# Altium footprint library PCB Library.PcbLib: 18 footprints (part 1 of 2)
Each footprint in its own frame and in the unit in brackets; x right, y up, seen from the top. Pads: shape width x height; smd on the part's side, far side on the other; paste and mask are expansions set on the pad; w line width, h text height; cw(c..) or ccw(c..) is an arc to the next point about the centre after c.
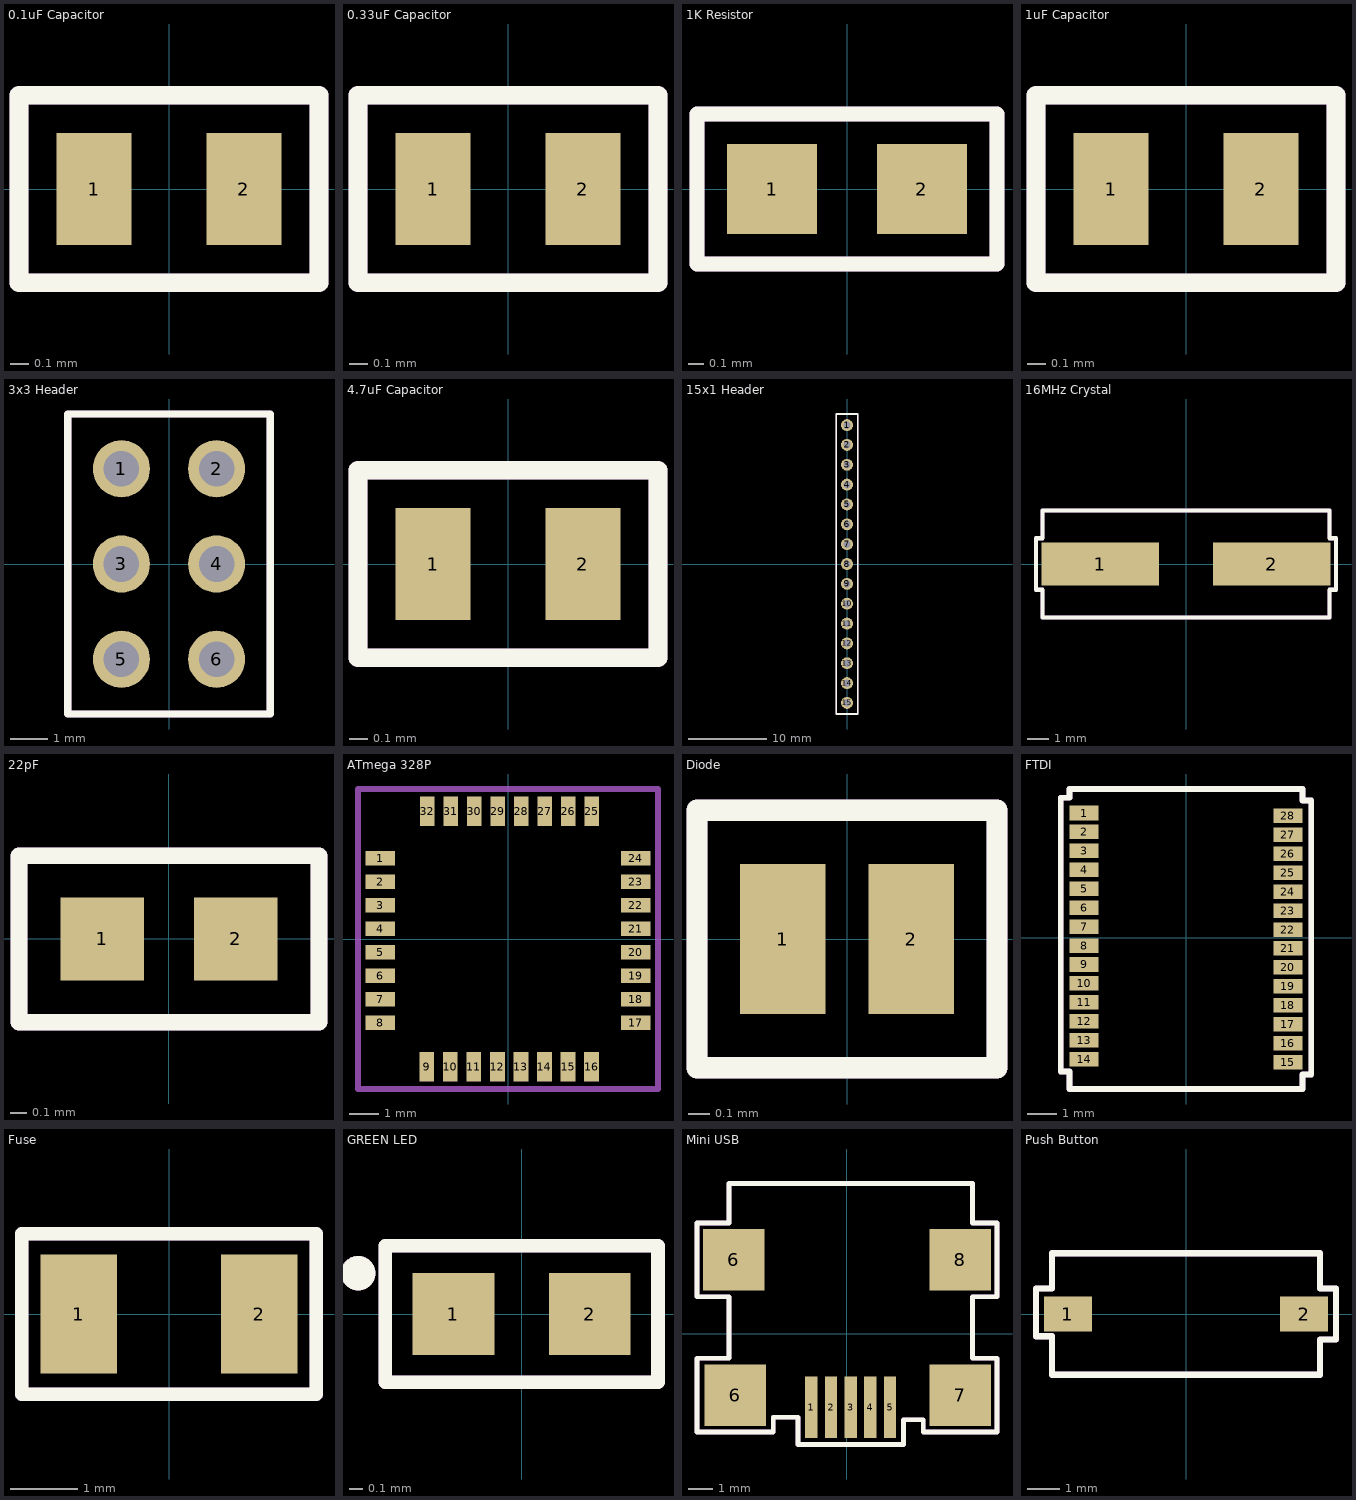
[diagram p0: the footprints below, top view; thin cyan lines are the x and y axes]

## 0.1uF Capacitor [mm]
pads (2):
  rect 0.4x0.6 smd: 1(-0.4,0) 2(0.4,0)
Top Overlay:
  lines w0.1: -0.8,-0.5 0.8,-0.5 0.8,0.5 -0.8,0.5 -0.8,-0.5
Assemble Layer:
  lines w0.1: -0.8,-0.5 0.8,-0.5 0.8,0.5 -0.8,0.5 -0.8,-0.5
  text "'.Designator'" at -0.5,-0.233 h0.5
3D body "0.1uF or 100nF.STEP": height 0.55, standoff 0, extent -0.5,-0.25 0.5,0.25

## 0.33uF Capacitor [mm]
pads (2):
  rect 0.4x0.6 smd: 1(-0.4,0) 2(0.4,0)
Top Overlay:
  lines w0.1: -0.8,-0.5 -0.8,0.5 0.8,0.5 0.8,-0.5 -0.8,-0.5
Assemble Layer:
  lines w0.1: -0.8,-0.5 -0.8,0.5 0.8,0.5 0.8,-0.5 -0.8,-0.5
  text "'.Designator'" at -0.5,-0.233 h0.5
3D body "0.33uF.STEP": height 0.55, standoff 0, extent -0.5,-0.25 0.5,0.25

## 1K Resistor [mm]
pads (2):
  rect 0.6x0.6 smd: 1(-0.5,0) 2(0.5,0)
Top Overlay:
  lines w0.1: -1,-0.5 -1,0.5 1,0.5 1,-0.5 -1,-0.5
Assemble Layer:
  lines w0.1: -1,-0.5 -1,0.5 1,0.5 1,-0.5 -1,-0.5
  text "'.Designator'" at -1.1,-0.233 h0.5
3D body "1K Resistor.STEP": height 0.36, standoff 0.01, extent -0.5,-0.25 0.5,0.25

## 1uF Capacitor [mm]
pads (2):
  rect 0.4x0.6 smd: 1(-0.4,0) 2(0.4,0)
Top Overlay:
  lines w0.1: -0.8,-0.5 -0.8,0.5 0.8,0.5 0.8,-0.5 -0.8,-0.5
Assemble Layer:
  lines w0.1: -0.8,-0.5 -0.8,0.5 0.8,0.5 0.8,-0.5 -0.8,-0.5
  text "'.Designator'" at -0.5,-0.233 h0.5
3D body "0.1uF or 100nF.STEP": height 0.55, standoff 0, extent -0.5,-0.25 0.5,0.25

## 3x3 Header [mil]
pads (6):
  round 60 hole 37.4: 1(-50,100) 2(50,100) 3(-50,0) 4(50,0) 5(-50,-100) 6(50,-100)
Top Overlay:
  lines w7.87: -106.3,-157.48 -106.3,157.48 106.3,157.48 106.3,-157.48 -106.3,-157.48
Assemble Layer:
  lines w7.87: -106.3,-157.48 -106.3,157.48 106.3,157.48 106.3,-157.48 -106.3,-157.48
  text "'.Designator'" at -94.49,-1.31 h19.68
3D body "3x3 Header.stp": height 218.61, standoff -235.72, extent -100,-150.39 100,149.61

## 4.7uF Capacitor [mm]
pads (2):
  rect 0.4x0.6 smd: 1(-0.4,0) 2(0.4,0)
Top Overlay:
  lines w0.1: -0.8,-0.5 0.8,-0.5 0.8,0.5 -0.8,0.5 -0.8,-0.5
Assemble Layer:
  lines w0.1: -0.8,-0.5 0.8,-0.5 0.8,0.5 -0.8,0.5 -0.8,-0.5
  text "'.Designator'" at -0.5,-0.233 h0.5
3D body "0.1uF or 100nF.STEP": height 0.55, standoff 0, extent -0.5,-0.25 0.5,0.25

## 15x1 Header [mil]
pads (15):
  round 60 hole 37.4: 1(0,700) 2(0,600) 3(0,500) 4(0,400) 5(0,300) 6(0,200) 7(0,100) 8(0,0) 9(0,-100) 10(0,-200) 11(0,-300) 12(0,-400) 13(0,-500) 14(0,-600) 15(0,-700)
Top Overlay:
  lines w7.87: -55.12,-755.91 -55.12,755.91 55.12,755.91 55.12,-755.91 -55.12,-755.91
Assemble Layer:
  lines w7.87: -55.12,-755.91 -55.12,755.91 55.12,755.91 55.12,-755.91 -55.12,-755.91
  text "'.Designator'" at -2.62,-66.93 h19.68
3D body "15x1 Header.stp": height 218.61, standoff -235.72, extent -50,-750.78 50,749.22

## 16MHz Crystal [mm]
pads (2):
  rect 5.5x2 smd: 1(-4,0) 2(4,0)
Top Overlay:
  lines w0.2: -7,-1.2 -6.7,-1.2 -6.7,-2.5 6.7,-2.5 6.7,-1.2 7,-1.2 7,1.2 6.7,1.2 6.7,2.5 -6.7,2.5 -6.7,1.2 -7,1.2 -7,-1.2
Assemble Layer:
  lines w0.2: -7,-1.2 -6.7,-1.2 -6.7,-2.5 6.7,-2.5 6.7,-1.2 7,-1.2 7,1.2 6.7,1.2 6.7,2.5 -6.7,2.5 -6.7,1.2 -7,1.2 -7,-1.2
  text "'.Designator'" at -2.7,-0.133 h0.5
3D body "Crystal.STEP": height 4.31, standoff 0.01, extent -6.6,-2.41 6.6,2.39

## 22pF [mm]
pads (2):
  rect 0.5x0.5 smd: 1(-0.4,0) 2(0.4,0)
Top Overlay:
  lines w0.1: -0.9,-0.5 -0.9,0.5 0.9,0.5 0.9,-0.5 -0.9,-0.5
Assemble Layer:
  lines w0.1: -0.9,-0.5 -0.9,0.5 0.9,0.5 0.9,-0.5 -0.9,-0.5
  text "'.Designator'" at -1.1,-0.233 h0.5
3D body "22pF.STEP": height 0.56, standoff 0, extent -0.5,-0.25 0.5,0.25

## ATmega 328P [mm]
pads (32):
  rect 1x0.5 smd: 1(-4.35,2.75) 2(-4.35,1.95) 3(-4.35,1.15) 4(-4.35,0.35) 5(-4.35,-0.45) 6(-4.35,-1.25) 7(-4.35,-2.05) 8(-4.35,-2.85) 17(4.35,-2.85) 18(4.35,-2.05) 19(4.35,-1.25) 20(4.35,-0.45) 21(4.35,0.35) 22(4.35,1.15) 23(4.35,1.95) 24(4.35,2.75)
  rect 0.5x1 smd: 9(-2.76,-4.35) 10(-1.96,-4.35) 11(-1.16,-4.35) 12(-0.36,-4.35) 13(0.44,-4.35) 14(1.24,-4.35) 15(2.04,-4.35) 16(2.84,-4.35) 25(2.85,4.35) 26(2.05,4.35) 27(1.25,4.35) 28(0.45,4.35) 29(-0.35,4.35) 30(-1.15,4.35) 31(-1.95,4.35) 32(-2.75,4.35)
Assemble Layer:
  lines w0.2: -5.1,-5.1 5.1,-5.1 5.1,5.1 -5.1,5.1 -5.1,-5.1
  text "'.Designator'" at -2.5,-0.033 h0.5
3D body "ATMEGA328P-AUR--3DModel-STEP-56544.STEP": height 1.06, standoff -0.14, extent -4.45,-4.55 4.55,4.45

## Diode [mm]
pads (2):
  rect 0.4x0.7 smd: 1(-0.3,0) 2(0.3,0)
Top Overlay:
  lines w0.1: -0.7,-0.6 0.7,-0.6 0.7,0.6 -0.7,0.6 -0.7,-0.6
Assemble Layer:
  lines w0.1: -0.7,-0.6 0.7,-0.6 0.7,0.6 -0.7,0.6 -0.7,-0.6
  text "'.Designator'" at -0.5,-0.133 h0.5
3D body "Diode.step": height 0.54, standoff 0.01, extent -0.533,-0.305 0.533,0.305

## FTDI [mm]
pads (28):
  rect 1x0.5 smd: 1(-3.5,4.275) 2(-3.5,3.625) 3(-3.5,2.975) 4(-3.5,2.325) 5(-3.5,1.675) 6(-3.5,1.025) 7(-3.5,0.375) 8(-3.5,-0.275) 9(-3.5,-0.925) 10(-3.5,-1.575) 11(-3.5,-2.225) 12(-3.5,-2.875) 13(-3.5,-3.525) 14(-3.5,-4.175) 15(3.5,-4.275) 16(3.5,-3.625) 17(3.5,-2.975) 18(3.5,-2.325) 19(3.5,-1.675) 20(3.5,-1.025) 21(3.5,-0.375) 22(3.5,0.275) 23(3.5,0.925) 24(3.5,1.575) 25(3.5,2.225) 26(3.5,2.875) 27(3.5,3.525) 28(3.5,4.175)
Top Overlay:
  lines w0.2: -4.3,-4.6 -4,-4.6 -4,-5.2 4,-5.2 4,-4.7 4.3,-4.7 4.3,4.7 4,4.7 4,5.1 -4,5.1 -4,4.8 -4.3,4.8 -4.3,-4.6
Assemble Layer:
  lines w0.2: -4.3,-4.6 -4,-4.6 -4,-5.2 4,-5.2 4,-4.7 4.3,-4.7 4.3,4.7 4,4.7 4,5.1 -4,5.1 -4,4.8 -4.3,4.8 -4.3,-4.6
3D body "FTDI.STEP": height 1.86, standoff -0.14, extent -3.9,-5.1 3.9,5.1

## Fuse [mm]
pads (2):
  rect 1.14x1.78 smd: 1(-1.35,0) 2(1.35,0)
Top Overlay:
  lines w0.2: -2.2,-1.2 -2.2,1.2 2.2,1.2 2.2,-1.2 -2.2,-1.2
Assemble Layer:
  lines w0.2: -2.2,-1.2 -2.2,1.2 2.2,1.2 2.2,-1.2 -2.2,-1.2
  text "'.Designator'" at -1.5,-0.133 h0.5
3D body "Fuse.step": height 0.79, standoff 0, extent -1.702,-0.889 1.702,0.889

## GREEN LED [mm]
pads (2):
  rect 0.6x0.6 smd: 1(-0.5,0) 2(0.5,0)
Top Overlay:
  circle w0.254: c-1.2,0.3 r0
  lines w0.1: -1,-0.5 1,-0.5 1,0.5 -1,0.5 -1,-0.5
Assemble Layer:
  circle w0.254: c-1.2,0.3 r0
  lines w0.1: -1,-0.5 1,-0.5 1,0.5 -1,0.5 -1,-0.5
  text "'.Designator'" at -0.9,-0.233 h0.5
3D body "GREEN LED.stp": height 0.41, standoff 0.01, extent -0.5,-0.25 0.5,0.25

## Mini USB [mm]
pads (9):
  rect 0.5x2.5 smd: 1(-1.45,-3) 2(-0.65,-3) 3(0.15,-3) 4(0.95,-3) 5(1.75,-3)
  rect 2.5x2.5 smd: 6(-4.6,3) 6(-4.55,-2.5) 7(4.6,-2.5) 8(4.6,3)
Top Overlay:
  lines w0.2: -6.1,-4 -3,-4 -3,-3.4 -2,-3.4 -2,-4.5 2.3,-4.5 2.3,-3.5 3.1,-3.5 3.1,-4 6.1,-4 6.1,-1 5.1,-1 5.1,1.5 6.1,1.5 6.1,4.5 5.1,4.5 5.1,6.1 -4.8,6.1 -4.8,4.5 -6.1,4.5 -6.1,1.5 -4.8,1.5 -4.8,-1 -6.1,-1 -6.1,-4
Assemble Layer:
  lines w0.2: -6.1,-4 -3,-4 -3,-3.4 -2,-3.4 -2,-4.5 2.3,-4.5 2.3,-3.5 3.1,-3.5 3.1,-4 6.1,-4 6.1,-1 5.1,-1 5.1,1.5 6.1,1.5 6.1,4.5 5.1,4.5 5.1,6.1 -4.8,6.1 -4.8,4.5 -6.1,4.5 -6.1,1.5 -4.8,1.5 -4.8,-1 -6.1,-1 -6.1,-4
  text "'.Designator'" at -2.7,1.167 h0.5
3D body "Mini USB.stp": height 3.91, standoff -0.99, extent -4.65,-3.325 4.95,5.925

## Push Button [mm]
pads (2):
  rect 1.5x1.1 smd: 1(-3.7,0) 2(3.7,0)
Top Overlay:
  lines w0.2: -4.7,-0.7 -4.7,0.8 -4.2,0.8 -4.2,1.9 4.2,1.9 4.2,0.8 4.7,0.8 4.7,-0.8 4.2,-0.8 4.2,-1.9 -4.2,-1.9 -4.2,-0.7 -4.7,-0.7
Assemble Layer:
  lines w0.2: -4.7,-0.7 -4.7,0.8 -4.2,0.8 -4.2,1.9 4.2,1.9 4.2,0.8 4.7,0.8 4.7,-0.8 4.2,-0.8 4.2,-1.9 -4.2,-1.9 -4.2,-0.7 -4.7,-0.7
  text "'.Designator'" at -2.9,-0.133 h0.5
3D body "Push Button.stp": height 4.16, standoff -0.14, extent -4,-1.75 4,1.75